# EAGLE library part ACPL-244-500E (library tm-optocoupler)
OPTOISOLATOR 3KV 4CH TRANS 16-SO Broadcom (Avago) ACPL-244-500E Vf typ = 1.2V
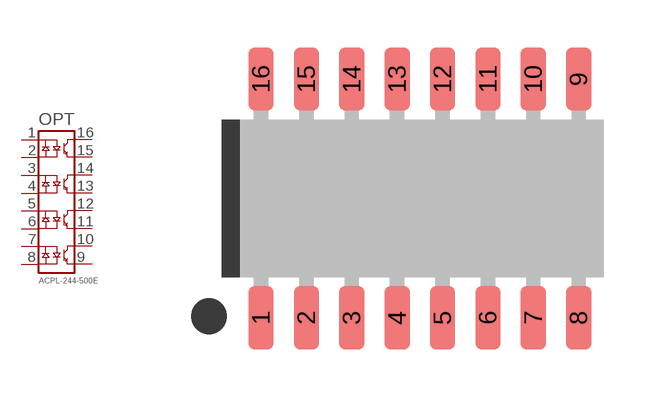
[diagram p0: symbol with the pads of SO-16; footprint SO-16]

Designator prefix OPT

## ACPL-244-500E  [SO-16]
1  1
2  2
3  3
4  4
5  5
6  6
7  7
8  8
9  9
10  10
11  11
12  12
13  13
14  14
15  15
16  16

## Footprint SO-16 (pad centres in mm)
smd 0.711 x 1.778: 1 -4.445,-3.34; 2 -3.175,-3.34; 3 -1.905,-3.34; 4 -0.635,-3.34; 5 0.635,-3.34; 6 1.905,-3.34; 7 3.175,-3.34; 8 4.445,-3.34; 9 4.445,3.34; 10 3.175,3.34; 11 1.905,3.34; 12 0.635,3.34; 13 -0.635,3.34; 14 -1.905,3.34; 15 -3.175,3.34; 16 -4.445,3.34